# Altium footprint library Fuses.PcbLib: 86 footprints (part 5 of 6)
Each footprint in its own frame and in the unit in brackets; x right, y up, seen from the top. Pads: shape width x height; smd on the part's side, far side on the other; paste and mask are expansions set on the pad; w line width, h text height; cw(c..) or ccw(c..) is an arc to the next point about the centre after c.
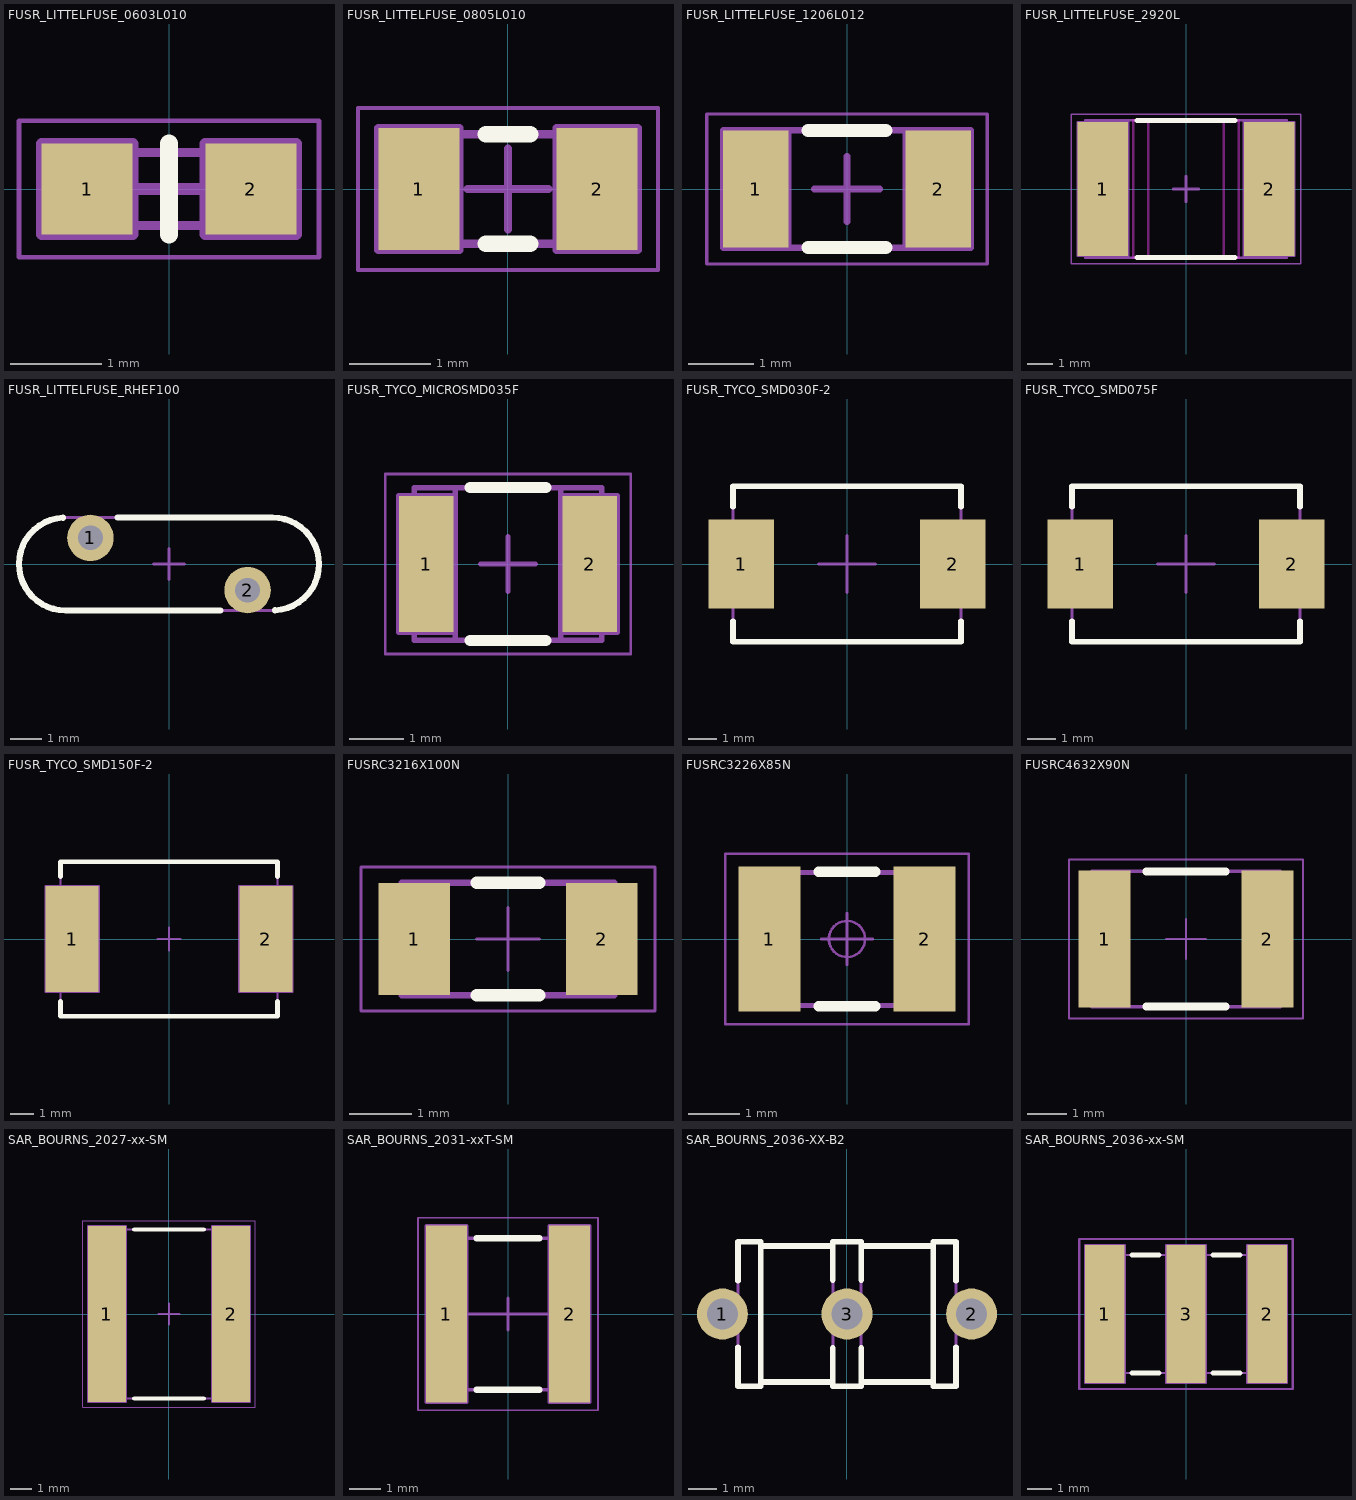
[diagram p4: the footprints below, top view; thin cyan lines are the x and y axes]

## FUSR_LITTELFUSE_0603L010 [mm] "Surface Mount POLY-FUSE® Resettable PTC, 0603L Series"
height 1
pads (2):
  rect 1x1 smd: 1(-0.9,0) 2(0.9,0)
Top Overlay:
  lines w0.2: 0,-0.5 0,0.5
Mechanical 8:
  lines w0.127: -1.4,0 -0.9,0 ; -0.9,-0.5 -0.9,0 ; -0.9,0.5 -0.9,0 ; -0.5,0 0,0 ; 0,-0.5 0,0 ; 0,0.5 0,0 ; 0.5,0 0,0 ; 0.9,-0.5 0.9,0 ; 0.9,0.5 0.9,0 ; 1.4,0 0.9,0 ; -1.4,-0.5 -0.4,-0.5 -0.4,0.5 -1.4,0.5 -1.4,-0.5 ; 0.4,-0.5 1.4,-0.5 1.4,0.5 0.4,0.5 0.4,-0.5
Mechanical 14:
  lines w0.1: -0.475,-0.4 -0.475,0.4 ; 0.475,-0.4 0.475,0.4 ; 0.8,-0.4 0.8,-0.15 ; 0.8,-0.4 -0.8,-0.4 -0.8,-0.15 ccw(c-0.8,0) -0.8,0.15 -0.8,0.4 0.8,0.4 0.8,0.15 ccw(c0.8,0) 0.8,-0.15 ; 0.8,-0.4 0.8,-0.15
Mechanical 15:
  lines w0.05: -1.65,-0.75 -1.65,0.75 1.65,0.75 1.65,-0.75 -1.65,-0.75
3D body "FUSR_LITTELFUSE_0603L010.stp": height 0.75, standoff 0, extent -0.8,-0.4 0.8,0.4

## FUSR_LITTELFUSE_0805L010 [mm] "Surface Mount POLY-FUSE® Resettable PTC, 0805L Series"
height 1
pads (2):
  rect 1x1.5 smd: 1(-1.1,0) 2(1.1,0)
Top Overlay:
  lines w0.2: -0.275,-0.675 0.275,-0.675 ; -0.275,0.675 0.275,0.675
Mechanical 8:
  lines w0.1: -1.6,0 -1.1,0 ; -1.1,-0.5 -1.1,0 ; -1.1,0.5 -1.1,0 ; -0.6,0 -1.1,0 ; -0.5,0 0,0 ; 0,-0.5 0,0 ; 0,0.5 0,0 ; 0.5,0 0,0 ; 0.6,0 1.1,0 ; 1.1,-0.5 1.1,0 ; 1.1,0.5 1.1,0 ; 1.6,0 1.1,0 ; -1.6,-0.75 -1.6,0.75 -0.6,0.75 -0.6,-0.75 -1.6,-0.75 ; 0.6,-0.75 0.6,0.75 1.6,0.75 1.6,-0.75 0.6,-0.75
Mechanical 14:
  lines w0.1: -0.675,-0.675 -0.675,0.675 ; -0.675,-0.675 -1.05,-0.675 -1.05,-0.275 ccw(c-1.05,0) -1.05,0.275 -1.05,0.675 -0.675,0.675 ; -0.675,-0.675 0.675,-0.675 ; -0.675,-0.675 -0.675,0.675 ; -0.675,0.675 0.675,0.675 ; 0.675,-0.675 0.675,0.675 ; 0.675,-0.675 1.05,-0.675 1.05,-0.275 cw(c1.05,0) 1.05,0.275 1.05,0.675 0.675,0.675 ; 0.675,-0.675 0.675,0.675
Mechanical 15:
  lines w0.05: -1.85,-1 1.85,-1 1.85,1 -1.85,1 -1.85,-1
3D body "FUSR_LITTELFUSE_0805L010.stp": height 1, standoff 0, extent -1.05,-0.675 1.05,0.675

## FUSR_LITTELFUSE_1206L012 [mm] "Surface Mount POLY-FUSE® Resettable PTC, 1206L Series"
height 1.45
pads (2):
  rect 1x1.8 smd: 1(-1.4,0) 2(1.4,0)
Top Overlay:
  lines w0.2: -0.6,-0.9 0.6,-0.9 ; -0.6,0.9 0.6,0.9
Mechanical 8:
  lines w0.1: -1.9,0 -1.4,0 ; -1.4,-0.5 -1.4,0 ; -1.4,0.5 -1.4,0 ; -0.9,0 -1.4,0 ; -0.5,0 0,0 ; 0,-0.5 0,0 ; 0,0.5 0,0 ; 0.5,0 0,0 ; 0.9,0 1.4,0 ; 1.4,-0.5 1.4,0 ; 1.4,0.5 1.4,0 ; 1.9,0 1.4,0 ; -1.9,-0.9 -0.9,-0.9 -0.9,0.9 -1.9,0.9 -1.9,-0.9 ; 0.9,-0.9 0.9,0.9 1.9,0.9 1.9,-0.9 0.9,-0.9
Mechanical 14:
  lines w0.1: -1,-0.9 -1,0.9 ; 1,-0.9 1,0.9 ; -1.75,-0.9 1.75,-0.9 1.75,-0.225 cw(c1.75,0) 1.75,0.225 1.75,0.9 -1.75,0.9 -1.75,0.225 cw(c-1.75,0) -1.75,-0.225 -1.75,-0.9
Mechanical 15:
  lines w0.05: -2.15,-1.15 -2.15,1.15 2.15,1.15 2.15,-1.15 -2.15,-1.15
3D body "FUSR_LITTELFUSE_1206L012.stp": height 1.45, standoff 0, extent -1.75,-0.9 1.75,0.9

## FUSR_LITTELFUSE_2920L [mm] "Surface Mount POLY-FUSE® Resettable PTC, Body 7.355 x 5.12mm, 2920L Series"
height 1.8
pads (2):
  rect 2x5.3 smd: 1(-3.3,0) 2(3.3,0)
Top Layer keep-out:
  lines w0.1: -2.1,-2.72 -1.49,-2.72 -1.49,2.72 -2.1,2.72 -2.1,-2.72 ; 1.49,-2.72 2.1,-2.72 2.1,2.72 1.49,2.72 1.49,-2.72
Top Overlay:
  lines w0.2: -1.95,-2.72 1.95,-2.72 ; -1.95,2.72 1.95,2.72
Mechanical 8:
  lines w0.1: -3.8,0 -3.3,0 ; -3.3,-0.5 -3.3,0 ; -3.3,0.5 -3.3,0 ; -2.8,0 -3.3,0 ; -0.5,0 0,0 ; 0,-0.5 0,0 ; 0,0.5 0,0 ; 0.5,0 0,0 ; 2.8,0 3.3,0 ; 3.3,-0.5 3.3,0 ; 3.3,0.5 3.3,0 ; 3.8,0 3.3,0 ; -4.3,-2.65 -2.3,-2.65 -2.3,2.65 -4.3,2.65 -4.3,-2.65 ; 2.3,-2.65 2.3,2.65 4.3,2.65 4.3,-2.65 2.3,-2.65
Mechanical 14:
  lines w0.1: -3.99,-2.72 -3.99,2.72 3.99,2.72 3.99,-2.72 -3.99,-2.72
Mechanical 15:
  lines w0.05: -4.55,-2.97 -4.55,2.97 4.55,2.97 4.55,-2.97 -4.55,-2.97
3D body "FUSR_LITTELFUSE_2920L.stp": height 1.8, standoff 0, extent -3.99,-2.72 3.99,2.72

## FUSR_LITTELFUSE_RHEF100 [mm] "Radial-Leaded PolySwitch® PTC Resettable Fuse, Diameter 9.7mm Width 3mm"
height 13.6
pads (2):
  round 1.5 hole 0.8: 1(-2.54,0.845) 2(2.54,-0.845)
Top Overlay:
  lines w0.2: -3.425,1.498 ccw(c-3.35,0) -4.85,0 ccw(c-3.35,0) -3.35,-1.5 1.656,-1.5 ; -1.656,1.5 3.35,1.5 cw(c3.35,0) 4.85,0 cw(c3.35,0) 3.425,-1.498
Mechanical 8:
  circle w0.1: c2.54,-0.845 r0.4
  circle w0.1: c2.54,-0.845 r0.255
  circle w0.1: c-2.54,0.845 r0.4
  circle w0.1: c-2.54,0.845 r0.255
  lines w0.1: -3.04,0.845 -2.54,0.845 ; -2.54,0.345 -2.54,0.845 ; -2.54,1.345 -2.54,0.845 ; -2.04,0.845 -2.54,0.845 ; -0.5,0 0,0 ; 0,-0.5 0,0 ; 0,0.5 0,0 ; 0.5,0 0,0 ; 2.04,-0.845 2.54,-0.845 ; 2.54,-1.345 2.54,-0.845 ; 2.54,-0.345 2.54,-0.845 ; 3.04,-0.845 2.54,-0.845
Mechanical 14:
  lines w0.1: -4.85,0 cw(c-3.35,0) -3.35,1.5 3.35,1.5 cw(c3.35,0) 4.85,0 cw(c3.35,0) 3.35,-1.5 -3.35,-1.5 cw(c-3.35,0) -4.85,0
3D body "FUSR_LITTELFUSE_RHEF100.stp": height 13.6, standoff -3, extent -4.85,-1.483 4.85,1.483

## FUSR_TYCO_MICROSMD035F [mm] "PolySwitch, PTC Devices, 2-Leads, Body 3.215 x 2.575mm"
height 0.62
pads (2):
  rect 1x2.5 smd: 1(-1.5,0) 2(1.5,0)
Top Overlay:
  lines w0.2: -0.7,-1.4 0.7,-1.4 ; -0.7,1.4 0.7,1.4
Mechanical 8:
  lines w0.1: -2,0 -1.5,0 ; -1.5,-0.5 -1.5,0 ; -1.5,0.5 -1.5,0 ; -1,0 -1.5,0 ; -0.5,0 0,0 ; 0,-0.5 0,0 ; 0,0.5 0,0 ; 0.5,0 0,0 ; 1,0 1.5,0 ; 1.5,-0.5 1.5,0 ; 1.5,0.5 1.5,0 ; 2,0 1.5,0 ; -2,-1.25 -2,1.25 -1,1.25 -1,-1.25 -2,-1.25 ; 1,-1.25 1,1.25 2,1.25 2,-1.25 1,-1.25
Mechanical 14:
  lines w0.1: -0.965,-1.4 -0.965,1.4 ; 0.965,-1.4 0.965,1.4 ; -1.715,-1.4 -1.715,1.4 1.715,1.4 1.715,-1.4 -1.715,-1.4
Mechanical 15:
  lines w0.05: -2.25,-1.65 -2.25,1.65 2.25,1.65 2.25,-1.65 -2.25,-1.65
3D body "FUSR_TYCO_MICROSMD035F.stp": height 0.62, standoff 0, extent -1.7,-1.4 1.7,1.4

## FUSR_TYCO_SMD030F-2 [mm] "PolySwitch, 2-Leads, Body 7.35x5.12mm Nominal"
height 3.18
pads (2):
  rect 2.3x3.1 smd: 1(-3.7,0) 2(3.7,0)
Top Overlay:
  lines w0.2: -3.99,-2 -3.99,-2.72 3.99,-2.72 3.99,-2 ; -3.99,2 -3.99,2.72 3.99,2.72 3.99,2
Mechanical 8:
  lines w0.1: -4.635,0 -3.635,0 ; -3.635,-1 -3.635,0 ; -3.635,1 -3.635,0 ; -2.635,0 -3.635,0 ; -1,0 0,0 ; 0,-1 0,0 ; 0,1 0,0 ; 1,0 0,0 ; 2.635,0 3.635,0 ; 3.635,-1 3.635,0 ; 3.635,1 3.635,0 ; 4.635,0 3.635,0
Mechanical 14:
  lines w0.1: 3.99,-1.205 3.99,1.205 ; -3.99,-2.72 3.99,-2.72 3.99,2.72 -3.99,2.72 -3.99,-2.72
3D body "FUSR_TYCO_SMD030F-2.stp": height 3.18, standoff 0, extent -3.99,-2.72 3.99,2.72

## FUSR_TYCO_SMD075F [mm] "PolySwitch, 2-Leads, Body 7.35x5.12mm Nominal"
height 3.18
pads (2):
  rect 2.3x3.1 smd: 1(-3.7,0) 2(3.7,0)
Top Overlay:
  lines w0.2: -3.99,-2 -3.99,-2.72 3.99,-2.72 3.99,-2 ; -3.99,2 -3.99,2.72 3.99,2.72 3.99,2
Mechanical 8:
  lines w0.1: -4.635,0 -3.635,0 ; -3.635,-1 -3.635,0 ; -3.635,1 -3.635,0 ; -2.635,0 -3.635,0 ; -1,0 0,0 ; 0,-1 0,0 ; 0,1 0,0 ; 1,0 0,0 ; 2.635,0 3.635,0 ; 3.635,-1 3.635,0 ; 3.635,1 3.635,0 ; 4.635,0 3.635,0
Mechanical 14:
  lines w0.1: 3.99,-1.205 3.99,1.205 ; -3.99,-2.72 -3.99,2.72 3.99,2.72 3.99,-2.72 -3.99,-2.72
3D body "FUSR_TYCO_SMD075F.stp": height 3.18, standoff 0, extent -3.99,-2.72 3.99,2.72

## FUSR_TYCO_SMD150F-2 [mm] "PolySwitch, 2-Leads, Body 8.7x6.35mm Nominal"
height 3
pads (2):
  rect 2.3x4.6 smd: 1(-4.2,0) 2(4.2,0)
Top Overlay:
  lines w0.2: -4.7,-2.7 -4.7,-3.355 4.7,-3.355 4.7,-2.7 ; -4.7,2.7 -4.7,3.355 4.7,3.355 4.7,2.7
Mechanical 8:
  lines w0.1: -4.7,0 -4.2,0 ; -4.2,-0.5 -4.2,0 ; -4.2,0.5 -4.2,0 ; -3.7,0 -4.2,0 ; -0.5,0 0,0 ; 0,-0.5 0,0 ; 0,0.5 0,0 ; 0.5,0 0,0 ; 3.7,0 4.2,0 ; 4.2,-0.5 4.2,0 ; 4.2,0.5 4.2,0 ; 4.7,0 4.2,0 ; -5.35,-2.3 -5.35,2.3 -3.05,2.3 -3.05,-2.3 -5.35,-2.3 ; 3.05,-2.3 3.05,2.3 5.35,2.3 5.35,-2.3 3.05,-2.3
Mechanical 14:
  lines w0.1: -4.7,-3.355 4.7,-3.355 4.7,3.355 -4.7,3.355 -4.7,-3.355
3D body "FUSR_TYCO_SMDC150F-2.stp": height 3, standoff 0, extent -4.7,-3.355 4.7,3.355

## FUSRC3216X100N [mm] "Chip Resettable Fuse, 2-Leads, Body 3.2mmx1.6mm, IPC Medium Density"
height 1
pads (2):
  rect 1.15x1.8 smd: 1(-1.5,0) 2(1.5,0)
Top Overlay:
  lines w0.2: -0.5,-0.9 0.5,-0.9 ; -0.5,0.9 0.5,0.9
Mechanical 14:
  lines w0.1: -1.7,-0.9 -1.7,0.9 1.7,0.9 1.7,-0.9 -1.7,-0.9
Mechanical 15:
  lines w0.05: -0.5,0 0.5,0 ; 0,-0.5 0,0.5 ; -2.35,-1.15 -2.35,1.15 2.35,1.15 2.35,-1.15 -2.35,-1.15
3D body "FUSRC3216X100N.stp": height 1, standoff 0, extent -1.7,-0.9 1.7,0.9

## FUSRC3226X85N [mm] "Chip Resettable Fuse, 2-Leads, Body 3.2mm x 2.6mm, IPC Medium Density"
height 0.85
pads (2):
  rect 1.2x2.8 smd: 1(-1.5,0) 2(1.5,0)
Top Overlay:
  lines w0.2: -0.55,-1.3 0.55,-1.3 ; -0.55,1.3 0.55,1.3
Mechanical 14:
  lines w0.1: -1.608,-1.288 1.608,-1.288 1.608,1.288 -1.608,1.288 -1.608,-1.288
Mechanical 15:
  circle w0.05: c0,0 r0.35
  lines w0.05: -0.5,0 0.5,0 ; 0,-0.5 0,0.5 ; -2.35,-1.65 2.35,-1.65 2.35,1.65 -2.35,1.65 -2.35,-1.65
3D body "FUSRC3226X85N.stp": height 0.85, standoff 0, extent -1.7,-1.4 1.7,1.4

## FUSRC4632X90N [mm] "Chip Resettable Fuse, 2-Leads, Body 4.6x3.2mm, IPC Medium Density"
height 0.89
pads (2):
  rect 1.3x3.45 smd: 1(-2.05,0) 2(2.05,0)
Top Overlay:
  lines w0.2: -1,-1.7 1,-1.7 ; -1,1.7 1,1.7
Mechanical 14:
  lines w0.1: -2.365,-1.705 -2.365,1.705 2.365,1.705 2.365,-1.705 -2.365,-1.705
Mechanical 15:
  lines w0.05: -0.5,0 0.5,0 ; 0,-0.5 0,0.5 ; -2.95,-2 -2.95,2 2.95,2 2.95,-2 -2.95,-2
3D body "FUSRC4632X90N.stp": height 0.89, standoff 0, extent -2.365,-1.705 2.365,1.705

## SAR_BOURNS_2027-xx-SM [mm] "2-electrode Precision Gas Discharge Tube Surge Protector Body D7.93mm x L6.42mm"
height 7.93
pads (2):
  rect 1.78x8.25 smd: 1(-2.92,0) 2(2.92,0)
Top Overlay:
  lines w0.2: -1.63,-3.965 1.63,-3.965 ; -1.63,3.965 1.63,3.965
Mechanical 8:
  lines w0.1: -3.42,0 -2.92,0 ; -2.92,-0.5 -2.92,0 ; -2.92,0.5 -2.92,0 ; -2.42,0 -2.92,0 ; -0.5,0 0,0 ; 0,-0.5 0,0 ; 0,0.5 0,0 ; 0.5,0 0,0 ; 2.42,0 2.92,0 ; 2.92,-0.5 2.92,0 ; 2.92,0.5 2.92,0 ; 3.42,0 2.92,0 ; -3.81,-4.125 -2.03,-4.125 -2.03,4.125 -3.81,4.125 -3.81,-4.125 ; 2.03,-4.125 3.81,-4.125 3.81,4.125 2.03,4.125 2.03,-4.125
Mechanical 14:
  lines w0.1: -3.21,-2.97 -2.5,-2.97 ; -3.21,2.97 -2.5,2.97 ; -2.5,-3.96 -2.5,3.96 ; 2.78,-3.865 2.88,-3.965 3.11,-3.965 3.21,-3.865 3.21,3.865 3.11,3.965 2.88,3.965 2.78,3.865 ; -3.21,-3.965 2.78,-3.965 2.78,3.965 -3.21,3.965 -3.21,-3.965
Mechanical 15:
  lines w0.05: -4.06,-4.375 4.06,-4.375 4.06,4.375 -4.06,4.375 -4.06,-4.375
3D body "SAR_BOURNS_2027-xx-SM.stp": height 7.93, standoff -0.01, extent -3.21,-3.965 3.21,3.965

## SAR_BOURNS_2031-xxT-SM [mm] "2-Electrode Miniature Fast Acting Surge Arrestor ,Body D5mm x L4.4mm"
height 5
pads (2):
  rect 1.3x5.6 smd: 1(-1.95,0) 2(1.95,0)
Top Overlay:
  lines w0.2: -1,-2.4 1,-2.4 ; -1,2.4 1,2.4
Mechanical 8:
  lines w0.1: -2.45,0 -1.95,0 ; -1.95,-0.5 -1.95,0 ; -1.95,0.5 -1.95,0 ; -1.45,0 -1.95,0 ; -0.5,0 0,0 ; 0,-0.5 0,0 ; 0,0.5 0,0 ; 0.5,0 0,0 ; 1.45,0 1.95,0 ; 1.95,-0.5 1.95,0 ; 1.95,0.5 1.95,0 ; 2.45,0 1.95,0 ; -2.6,-2.8 -1.3,-2.8 -1.3,2.8 -2.6,2.8 -2.6,-2.8 ; 1.3,-2.8 2.6,-2.8 2.6,2.8 1.3,2.8 1.3,-2.8
Mechanical 14:
  lines w0.1: -2.2,-1.658 -1.7,-1.658 ; -2.2,0 2.2,0 ; -2.2,1.658 -1.7,1.658 ; -1.7,-2.4 1.7,-2.4 ; -1.7,2.4 1.7,2.4 ; -1.4,-2.4 -1.4,2.4 ; -2.2,-2.5 -1.7,-2.5 -1.7,2.5 -2.2,2.5 -2.2,-2.5 ; 1.7,-2.5 2.2,-2.5 2.2,2.5 1.7,2.5 1.7,-2.5
Mechanical 15:
  lines w0.05: -2.85,-3.05 2.85,-3.05 2.85,3.05 -2.85,3.05 -2.85,-3.05
3D body "SAR_BOURNS_2031-xxT-SM.stp": height 5, standoff 0, extent -2.2,-2.5 2.2,2.5

## SAR_BOURNS_2036-XX-B2 [mm] "Miniature 3-Poles Gas Discharge Tube Body D5.1 mm x L7.55 mm"
height 5.1
pads (3):
  round 1.8 hole 1.1: 1(-4.4,0) 2(4.4,0) 3(0,0)
Top Overlay:
  lines w0.2: -3.85,-1.178 -3.85,-2.55 -3.05,-2.55 -3.05,2.55 -3.85,2.55 -3.85,1.178 ; -3.05,-2.4 -0.5,-2.4 ; -3.05,2.4 -0.5,2.4 ; -0.5,-1.2 -0.5,-2.55 0.5,-2.55 0.5,-1.2 ; -0.5,1.2 -0.5,2.55 0.5,2.55 0.5,1.2 ; 0.5,-2.4 3.05,-2.4 ; 0.5,2.4 3.05,2.4 ; 3.85,-1.178 3.85,-2.55 3.05,-2.55 3.05,2.55 3.85,2.55 3.85,1.178
Mechanical 8:
  lines w0.1: -4.9,0 -4.4,0 ; -4.4,-0.5 -4.4,0 ; -4.4,0.5 -4.4,0 ; -3.9,0 -4.4,0 ; -0.5,0 0,0 ; 0,-0.5 0,0 ; 0,0.5 0,0 ; 0.5,0 0,0 ; 3.9,0 4.4,0 ; 4.4,-0.5 4.4,0 ; 4.4,0.5 4.4,0 ; 4.9,0 4.4,0
Mechanical 14:
  lines w0.1: -3.85,-0.4 -4.4,-0.4 cw(c-4.4,0) -4.4,0.4 -3.85,0.4 ; -3.05,-2.4 -0.5,-2.4 ; -3.05,2.4 -0.5,2.4 ; 0.5,-2.4 3.05,-2.4 ; 0.5,2.4 3.05,2.4 ; 3.85,-0.4 4.4,-0.4 ccw(c4.4,0) 4.4,0.4 3.85,0.4 ; -3.85,-2.55 -3.85,2.55 -3.05,2.55 -3.05,-2.55 -3.85,-2.55 ; -0.5,-2.55 -0.5,2.55 0.5,2.55 0.5,-2.55 -0.5,-2.55 ; 3.05,-2.55 3.85,-2.55 3.85,2.55 3.05,2.55 3.05,-2.55
3D body "SAR_BOURNS_2036-XX-B2.stp": height 5.1, standoff -3.2, extent -4.8,-2.55 4.8,2.55

## SAR_BOURNS_2036-xx-SM [mm] "3-electrode Precision Gas Discharge Tube Surge Protector Body D5 mm x L7.3 mm"
height 5
pads (3):
  rect 1.6x5.6 smd: 1(-3.3,0) 2(3.3,0) 3(0,0)
Top Overlay:
  lines w0.2: -2.2,-2.4 -1.1,-2.4 ; -2.2,2.4 -1.1,2.4 ; 1.1,-2.4 2.2,-2.4 ; 1.1,2.4 2.2,2.4
Mechanical 8:
  lines w0.1: -3.8,0 -3.3,0 ; -3.3,-0.5 -3.3,0 ; -3.3,0.5 -3.3,0 ; -2.8,0 -3.3,0 ; -0.5,0 0,0 ; 0,-0.5 0,0 ; 0,0.5 0,0 ; 0.5,0 0,0 ; 2.8,0 3.3,0 ; 3.3,-0.5 3.3,0 ; 3.3,0.5 3.3,0 ; 3.8,0 3.3,0 ; -4.1,-2.8 -4.1,2.8 -2.5,2.8 -2.5,-2.8 -4.1,-2.8 ; -0.8,-2.8 -0.8,2.8 0.8,2.8 0.8,-2.8 -0.8,-2.8 ; 2.5,-2.8 2.5,2.8 4.1,2.8 4.1,-2.8 2.5,-2.8
Mechanical 14:
  lines w0.1: -3.15,-2.4 -0.45,-2.4 ; -3.15,2.4 -0.45,2.4 ; 0.45,-2.4 2.95,-2.4 ; 0.45,2.4 2.95,2.4 ; -3.65,-2.5 -3.15,-2.5 -3.15,2.5 -3.65,2.5 -3.65,-2.5 ; -0.45,-2.5 0.45,-2.5 0.45,2.5 -0.45,2.5 -0.45,-2.5 ; 2.95,-2.5 3.65,-2.5 3.65,2.5 2.95,2.5 2.95,-2.5
Mechanical 15:
  lines w0.1: -4.35,-3.05 -4.35,3.05 4.35,3.05 4.35,-3.05 -4.35,-3.05
3D body "SAR_BOURNS_2036-xx-SM.stp": height 5, standoff 0, extent -3.65,-2.5 3.65,2.5